# EAGLE library part MPU-6050 (library Seeed-OPL-2017-01-Sensor-camilo)
314080000
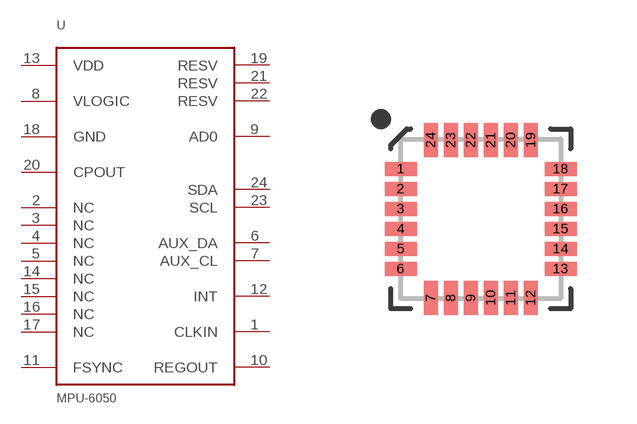
[diagram p6: symbol with the pads of MPU-6050; footprint MPU-6050]

Designator prefix U

## MPU-6050  [MPU-6050]
1  CLKIN
2  NC
3  NC
4  NC
5  NC
6  AUX_DA
7  AUX_CL
8  VLOGIC
9  AD0
10  REGOUT
11  FSYNC
12  INT
13  VDD
14  NC
15  NC
16  NC
17  NC
18  GND
19  RESV
20  CPOUT
21  RESV
22  RESV
23  SCL
24  SDA

## Footprint MPU-6050 (pad centres in mm)
smd 0.8 x 0.35: 1 -2,1.25; 2 -2,0.75; 3 -2,0.25; 4 -2,-0.25; 5 -2,-0.75; 6 -2,-1.25; 13 2,-1.25; 14 2,-0.75; 15 2,-0.25; 16 2,0.25; 17 2,0.75; 18 2,1.25
smd 0.35 x 0.85: 7 -1.25,-1.975; 8 -0.75,-1.975; 9 -0.25,-1.975; 10 0.25,-1.975; 11 0.75,-1.975; 12 1.25,-1.975; 19 1.25,1.975; 20 0.75,1.975; 21 0.25,1.975; 22 -0.25,1.975; 23 -0.75,1.975; 24 -1.25,1.975